# EAGLE library part LM48310SD/NOPB (library BuzzerLib)
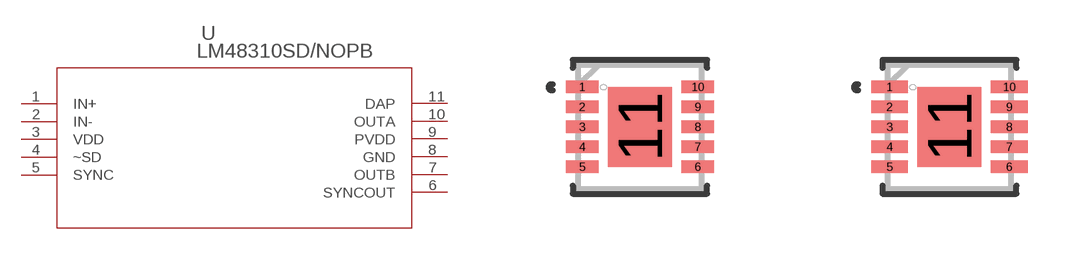
[diagram p1: symbol with the pads of SDA10A; footprints SDA10A, SDA10A-M]

Designator prefix U

## LM48310SD/NOPB (MANUFACTURER_PART_NUMBER: LM48310SDNOPB; VENDOR: Texas Instruments)  [SDA10A]
1  IN+  in
2  IN-  in
3  VDD  pwr
4  ~SD  in
5  SYNC  in
6  SYNCOUT  out
7  OUTB  out
8  GND  pwr
9  PVDD  pwr
10  OUTA  out
11  DAP  pwr

## LM48310SD/NOPBSDA10A-M (MANUFACTURER_PART_NUMBER: LM48310SDNOPB; VENDOR: Texas Instruments)  [SDA10A-M]
Pads as for SDA10A

## LM48310SD/NOPBSDA10A-L (MANUFACTURER_PART_NUMBER: LM48310SDNOPB; VENDOR: Texas Instruments)  [SDA10A-L]
Pads as for SDA10A

## Footprint SDA10A (pad centres in mm)
smd 0.813 x 0.305: 1 -1.448,1; 2 -1.448,0.5; 3 -1.448,0; 4 -1.448,-0.5; 5 -1.448,-1; 6 1.448,-1; 7 1.448,-0.5; 8 1.448,0; 9 1.448,0.5; 10 1.448,1
smd 1.6 x 2: 11 0,0

## Footprint SDA10A-M (pad centres in mm)
smd 0.914 x 0.305: 1 -1.499,1; 2 -1.499,0.5; 3 -1.499,0; 4 -1.499,-0.5; 5 -1.499,-1; 6 1.499,-1; 7 1.499,-0.5; 8 1.499,0; 9 1.499,0.5; 10 1.499,1
smd 1.6 x 2: 11 0,0

## Footprint SDA10A-L (pad centres in mm)
smd 0.711 x 0.305: 1 -1.397,1; 2 -1.397,0.5; 3 -1.397,0; 4 -1.397,-0.5; 5 -1.397,-1; 6 1.397,-1; 7 1.397,-0.5; 8 1.397,0; 9 1.397,0.5; 10 1.397,1
smd 1.6 x 2: 11 0,0